# Altium schematic symbol library Connectors-Hirose.SchLib: 2 symbols
Pins are listed as number, name and electrical type; pins without a type are passive.

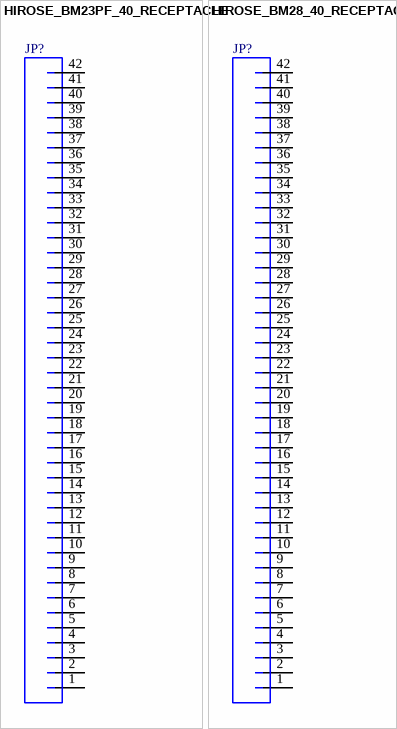
[diagram p0: symbols HIROSE_BM23PF_40_RECEPTACLE to HIROSE_BM28_40_RECEPTACLE]

## HIROSE_BM23PF_40_RECEPTACLE
designator JP?  (value not drawn)
CONN RCPT 0.35MM SMD 40POS; Manufacturer: Hirose; PartNumber: BM23PF0.8-40DS-0.35V(51); PackageReference: BM23PF-0.35; Mounting Technology: Surface Mount
footprint HIROSE-BM23PF-40-0.35MM-RECEPTACLE
pins: 1, 2, 3, 4, 5, 6, 7, 8, 9, 10, 11, 12, 13, 14, 15, 16, 17, 18, 19, 20, 21, 22, 23, 24, 25, 26, 27, 28, 29, 30, 31, 32, 33, 34, 35, 36, 37, 38, 39, 40, 41, 42

## HIROSE_BM28_40_RECEPTACLE
designator JP?  (value not drawn)
Board to Board & Mezzanine Connectors 40P Receptacle Straight SMT; Manufacturer: Hirose; PartNumber: BM28B0.6-40DS/2-0.35V(53); PackageReference: BM28-0.35; Mounting Technology: Surface Mount
footprint HIROSE-BM28-40-0.35MM-RECEPTACLE
pins: 1, 2, 3, 4, 5, 6, 7, 8, 9, 10, 11, 12, 13, 14, 15, 16, 17, 18, 19, 20, 21, 22, 23, 24, 25, 26, 27, 28, 29, 30, 31, 32, 33, 34, 35, 36, 37, 38, 39, 40, 41, 42